# EAGLE library part LOGIC_ANALYSE_FEM (library Custom)
FEMALE HEADER
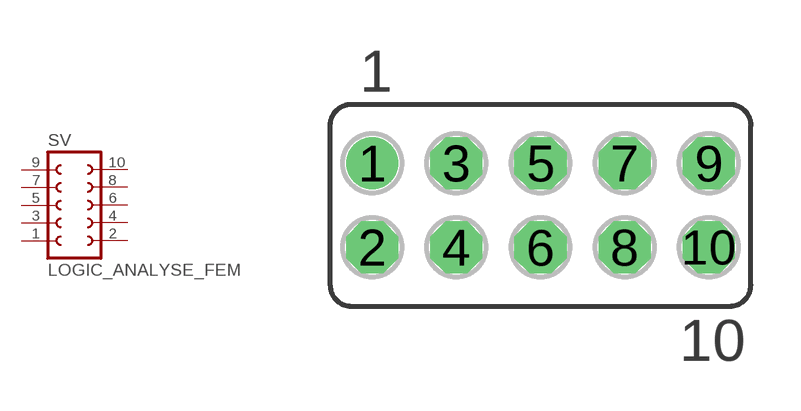
[diagram p75: symbol with the pads of FE05-2; footprint FE05-2]

Designator prefix SV

## LOGIC_ANALYSE_FEM (OC_FARNELL: unknown; OC_NEWARK: unknown)  [FE05-2]
1  CH1  in
2  CH2  in
3  CH3  in
4  CH4  in
5  CH5  in
6  CH6  in
7  CH7  in
8  CH8  in
9  CLK  in
10  GND  pwr

## Footprint FE05-2 (pad centres in mm)
FEMALE HEADER
drill 0.914 pad 1.575: 1 -5.08,1.27
drill 0.914 pad 1.575 octagon: 2 -5.08,-1.27; 3 -2.54,1.27; 4 -2.54,-1.27; 5 0,1.27; 6 0,-1.27; 7 2.54,1.27; 8 2.54,-1.27; 9 5.08,1.27; 10 5.08,-1.27